# EAGLE library part RN4871U (library justinloundagin)
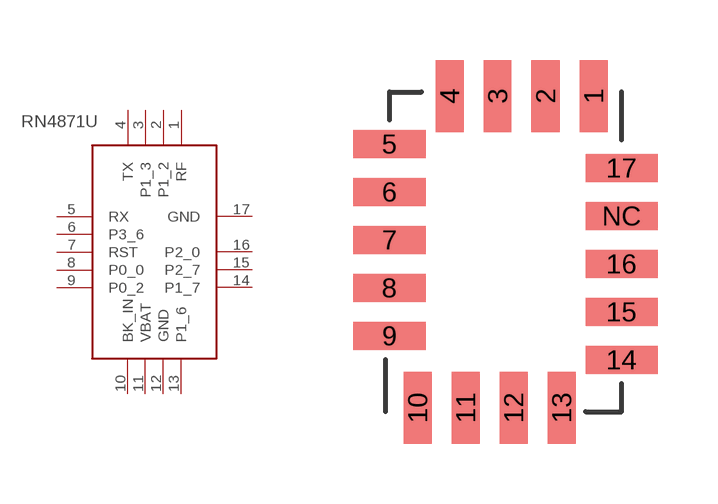
[diagram p2: symbol with the pads of RN4871U; footprint RN4871U]

Designator prefix -

## RN4871U  [RN4871U]
1  RF
2  P1_2
3  P1_3
4  TX
5  RX
6  P3_6
7  RST
8  P0_0
9  P0_2
10  BK_IN
11  VBAT
12  GND
13  P1_6
14  P1_7
15  P2_7
16  P2_0
17  GND

## Footprint RN4871U (pad centres in mm)
smd 0.7 x 1.8: 1 5.2,7.9; 2 4,7.9; 3 2.8,7.9; 4 1.6,7.9; 10 0.8,0.1; 11 2,0.1; 12 3.2,0.1; 13 4.4,0.1
smd 1.8 x 0.7: 5 0.1,6.7; 6 0.1,5.5; 7 0.1,4.3; 8 0.1,3.1; 9 0.1,1.9; 14 5.9,1.3; 15 5.9,2.5; 16 5.9,3.7; 17 5.9,6.1; NC 5.9,4.9